# Altium schematic symbol library Sigma Design.SchLib: 2 symbols
Pins are listed as number, name and electrical type; pins without a type are passive.

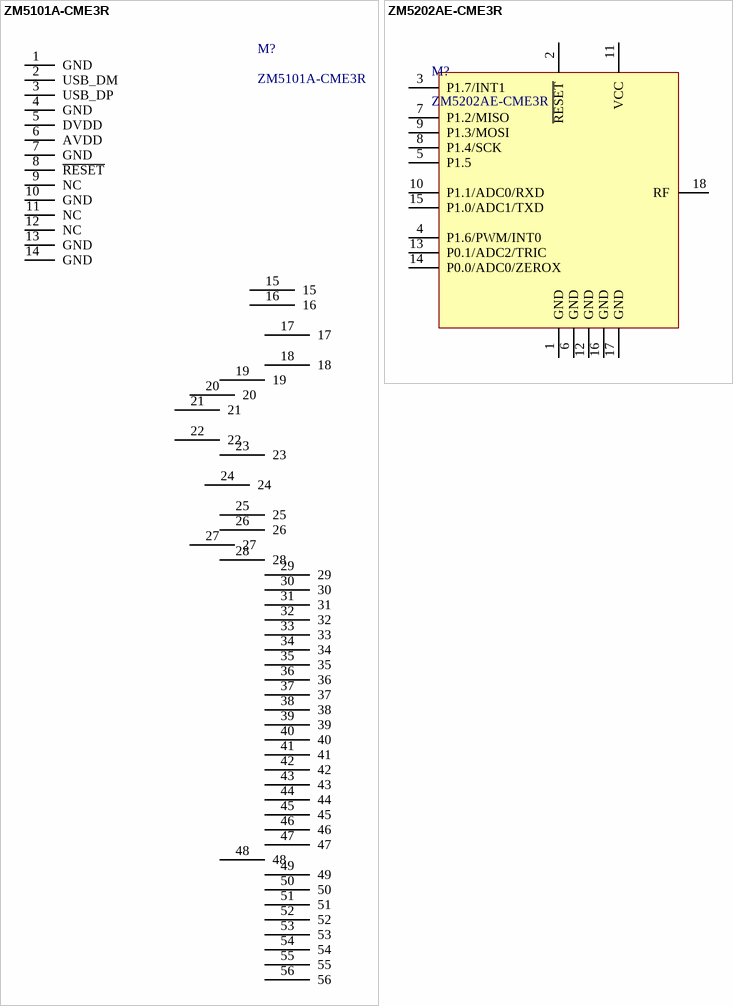
[diagram p0: symbols ZM5101A-CME3R to ZM5202AE-CME3R]

## ZM5101A-CME3R
designator M?
Z -WAVE® WIRELESS  SYSTEM-IN-PACKAGE; Price: *; Catalog: *; Catalog number: *; Value: ZM5101A-CME3R
pins: 1 GND, 2 USB_DM, 3 USB_DP, 4 GND, 5 DVDD, 6 AVDD, 7 GND, 8 ~{RESET}, 9 NC, 10 GND, 11 NC, 12 NC, 13 GND, 14 GND, 15, 16, 17, 18, 19, 20, 21, 22, 23, 24, 25, 26, 27, 28, 29, 30, 31, 32, 33, 34, 35, 36, 37, 38, 39, 40, 41, 42, 43, 44, 45, 46, 47, 48, 49, 50, 51, 52, 53, 54, 55, 56

## ZM5202AE-CME3R
designator M?
Catalog: Digi-Key; Catalog number: 703-1071-1-ND; Value: ZM5202AE-CME3R; Price: 12.55$
footprint ZM5202
pins: 1 GND, 2 ~{RESET}, 3 P1.7/INT1, 4 P1.6/PWM/INT0, 5 P1.5, 6 GND, 7 P1.2/MISO, 8 P1.4/SCK, 9 P1.3/MOSI, 10 P1.1/ADC0/RXD, 11 VCC, 12 GND, 13 P0.1/ADC2/TRIC, 14 P0.0/ADC0/ZEROX, 15 P1.0/ADC1/TXD, 16 GND, 17 GND, 18 RF